# EAGLE library part SI7051-A20 (library tilesPartComp)
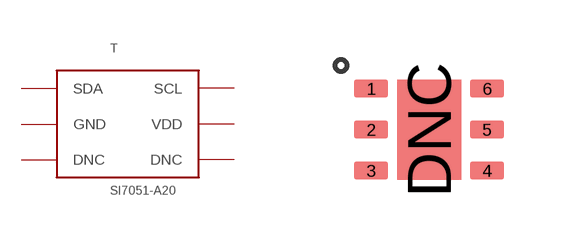
[diagram p3: symbol with the pads of DFN-6; footprint DFN-6]

Designator prefix T

## SI7051-A20  [DFN-6]
1  SDA
2  GND  sup
3  DNC  nc
4  DNC  nc
5  VDD  pwr
6  SCL

## Footprint DFN-6 (pad centres in mm)
smd 0.85 x 0.45: 1 -1.45,1.025; 2 -1.45,0; 3 -1.45,-1.025; 4 1.45,-1.025; 5 1.45,0; 6 1.45,1.025
smd 1.6 x 2.5: DNC 0,0